# EAGLE library part AM335X (library TI)
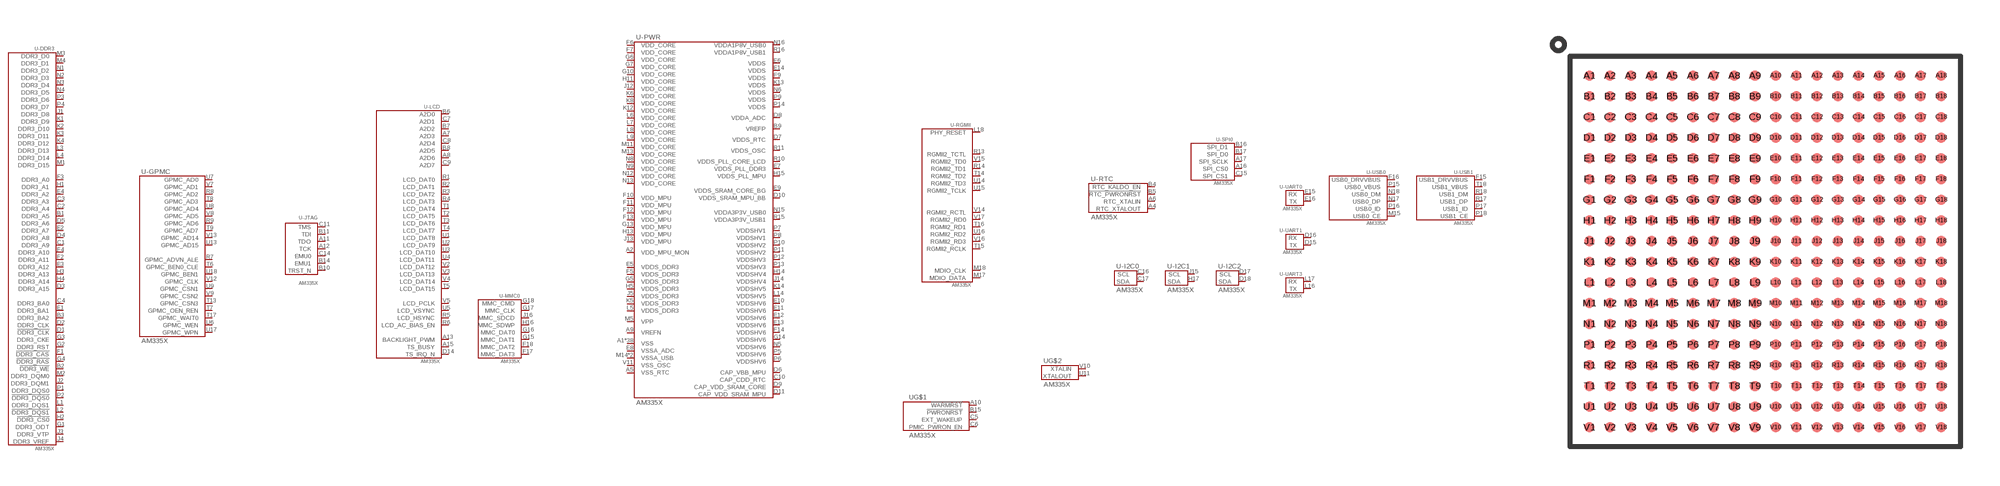
[diagram p6: symbol with the pads of AM335X-ZCZ; footprint AM335X-ZCZ]

Designator prefix U; gates -DDR3=AM335X-DDR3 -GPMC=AM335X-GPMC -JTAG=AM335X-JTAG -LCD=AM335X-LCD -PWR=AM335X-POWER -RGMII=AM335X-RGMII -RTC=AM335X-RTC -SPI0=AM335X-SPI0 -UART0=AM335X-UART0 -USB0=AM335X-USB0 -USB1=AM335X-USB1 -I2C0=AM335X-I2C -I2C1=AM335X-I2C -I2C2=AM335X-I2C -MMC0=AM335X-MMC0 -UART1=AM335X-UART0 -UART3=AM335X-UART0 G$1=AM335X-CONTROL G$2=AM335X-XTAL

## AM335X-ZCZ  [AM335X-ZCZ]
A1  -PWR:VSS
A2  -PWR:VDD_MPU_MON
A4  -RTC:RTC_XTALOUT
A5  -PWR:VSS_RTC
A6  -RTC:RTC_XTALIN
A7  -LCD:A2D3
A8  -LCD:A2D6
A9  -PWR:VREFN
A10  G$1:!WARMRST
A11  -JTAG:TDO
A12  -JTAG:TCK
A13  -LCD:BACKLIGHT_PWM
A15  -LCD:TS_BUSY
A16  -SPI0:SPI_CS0
A17  -SPI0:SPI_SCLK
A18  -PWR:VSS
B1  -DDR3:DDR3_A5
B2  -DDR3:!DDR3_WE
B3  -DDR3:DDR3_BA2
B4  -RTC:!RTC_KALDO_EN
B5  -RTC:!RTC_PWRONRST
B6  -LCD:A2D0
B7  -LCD:A2D2
B8  -LCD:A2D5
B9  -PWR:VREFP
B10  -JTAG:TRST_N
B11  -JTAG:TDI
B14  -JTAG:EMU1
B15  G$1:!PWRONRST
B16  -SPI0:SPI_D1
B17  -SPI0:SPI_D0
C1  -DDR3:DDR3_A9
C2  -DDR3:DDR3_A4
C3  -DDR3:DDR3_A3
C4  -DDR3:DDR3_BA0
C5  G$1:EXT_WAKEUP
C6  G$1:PMIC_PWRON_EN
C7  -LCD:A2D1
C8  -LCD:A2D4
C9  -LCD:A2D7
C10  -PWR:CAP_CDD_RTC
C11  -JTAG:TMS
C14  -JTAG:EMU0
C15  -SPI0:SPI_CS1
C16  -I2C0:SCL
C17  -I2C0:SDA
D1  -DDR3:!DDR3_CLK
D2  -DDR3:DDR3_CLK
D3  -DDR3:DDR3_A15
D4  -DDR3:DDR3_A8
D5  -DDR3:DDR3_A6
D6  -PWR:CAP_VBB_MPU
D7  -PWR:VDDS_RTC
D8  -PWR:VDDA_ADC
D9  -PWR:CAP_VDD_SRAM_CORE
D10  -PWR:VDDS_SRAM_MPU_BB
D11  -PWR:CAP_VDD_SRAM_MPU
D14  -LCD:TS_IRQ_N
D15  -UART1:TX
D16  -UART1:RX
D17  -I2C2:SCL
D18  -I2C2:SDA
E1  -DDR3:DDR3_BA1
E2  -DDR3:DDR3_A7
E3  -DDR3:DDR3_A12
E4  -DDR3:DDR3_A2
E5  -PWR:VDDS_DDR3
E6  -PWR:VDDS
E7  -PWR:VDDS_PLL_DDR3
E8  -PWR:VSSA_ADC
E9  -PWR:VDDS_SRAM_CORE_BG
E10  -PWR:VDDSHV6
E11  -PWR:VDDSHV6
E12  -PWR:VDDSHV6
E13  -PWR:VDDSHV6
E14  -PWR:VDDS
E15  -UART0:RX
E16  -UART0:TX
F1  -DDR3:!DDR3_CAS
F2  -DDR3:DDR3_A11
F3  -DDR3:DDR3_A0
F4  -DDR3:DDR3_A10
F5  -PWR:VDDS_DDR3
F6  -PWR:VDD_CORE
F7  -PWR:VDD_CORE
F8  -PWR:VSS
F9  -PWR:VDDS
F10  -PWR:VDD_MPU
F11  -PWR:VDD_MPU
F12  -PWR:VDD_MPU
F13  -PWR:VDD_MPU
F14  -PWR:VDDSHV6
F15  -USB1:USB1_DRVVBUS
F16  -USB0:USB0_DRVVBUS
F17  -MMC0:MMC_DAT3
F18  -MMC0:MMC_DAT2
G1  -DDR3:DDR3_ODT
G2  -DDR3:DDR3_RST
G3  -DDR3:DDR3_CKE
G4  -DDR3:!DDR3_RAS
G5  -PWR:VDDS_DDR3
G6  -PWR:VDD_CORE
G7  -PWR:VDD_CORE
G8  -PWR:VSS
G9  -PWR:VSS
G10  -PWR:VDD_CORE
G11  -PWR:VSS
G12  -PWR:VSS
G13  -PWR:VDD_MPU
G14  -PWR:VDDSHV6
G15  -MMC0:MMC_DAT1
G16  -MMC0:MMC_DAT0
G17  -MMC0:MMC_CLK
G18  -MMC0:MMC_CMD
H1  -DDR3:DDR3_A1
H2  -DDR3:!DDR3_CS0
H3  -DDR3:DDR3_A13
H4  -DDR3:DDR3_A14
H5  -PWR:VDDS_DDR3
H6  -PWR:VSS
H7  -PWR:VSS
H8  -PWR:VSS
H9  -PWR:VSS
H10  -PWR:VSS
H11  -PWR:VDD_CORE
H12  -PWR:VSS
H13  -PWR:VDD_MPU
H14  -PWR:VDDSHV4
H15  -PWR:VDDS_PLL_MPU
H16  -MMC0:MMC_SDWP
H17  -I2C1:SDA
J1  -DDR3:DDR3_D8
J2  -DDR3:DDR3_DQM1
J3  -DDR3:DDR3_VTP
J4  -DDR3:DDR3_VREF
J5  -PWR:VDDS_DDR3
J6  -PWR:VSS
J7  -PWR:VSS
J8  -PWR:VSS
J9  -PWR:VSS
J10  -PWR:VSS
J11  -PWR:VSS
J12  -PWR:VDD_CORE
J13  -PWR:VDD_MPU
J14  -PWR:VDDSHV4
J15  -I2C1:SCL
J16  -MMC0:MMC_SDCD
K1  -DDR3:DDR3_D9
K2  -DDR3:DDR3_D10
K3  -DDR3:DDR3_D11
K4  -DDR3:DDR3_D12
K5  -PWR:VDDS_DDR3
K6  -PWR:VDD_CORE
K7  -PWR:VSS
K8  -PWR:VDD_CORE
K9  -PWR:VSS
K10  -PWR:VSS
K11  -PWR:VSS
K12  -PWR:VDD_CORE
K13  -PWR:VDDS
K14  -PWR:VDDSHV5
L1  -DDR3:DDR3_DQS1
L2  -DDR3:!DDR3_DQS1
L3  -DDR3:DDR3_D13
L4  -DDR3:DDR3_D14
L5  -PWR:VDDS_DDR3
L6  -PWR:VDD_CORE
L7  -PWR:VDD_CORE
L8  -PWR:VDD_CORE
L9  -PWR:VDD_CORE
L10  -PWR:VSS
L11  -PWR:VSS
L12  -PWR:VSS
L13  -PWR:VSS
L14  -PWR:VDDSHV5
L16  -UART3:TX
L17  -UART3:RX
L18  -RGMII:PHY_RESET
M1  -DDR3:DDR3_D15
M2  -DDR3:DDR3_DQM0
M3  -DDR3:DDR3_D0
M4  -DDR3:DDR3_D1
M5  -PWR:VPP
M6  -PWR:VSS
M7  -PWR:VSS
M8  -PWR:VSS
M9  -PWR:VSS
M10  -PWR:VSS
M11  -PWR:VDD_CORE
M12  -PWR:VSS
M13  -PWR:VDD_CORE
M14  -PWR:VSSA_USB
M15  -USB0:USB0_CE
M17  -RGMII:MDIO_DATA
M18  -RGMII:MDIO_CLK
N1  -DDR3:DDR3_D2
N2  -DDR3:DDR3_D3
N3  -DDR3:DDR3_D4
N4  -DDR3:DDR3_D5
N5  -PWR:VDDSHV6
N6  -PWR:VDDS
N7  -PWR:VSS
N8  -PWR:VDD_CORE
N9  -PWR:VDD_CORE
N10  -PWR:VSS
N11  -PWR:VSS
N12  -PWR:VDD_CORE
N13  -PWR:VDD_CORE
N14  -PWR:VSSA_USB
N15  -PWR:VDDA3P3V_USB0
N16  -PWR:VDDA1P8V_USB0
N17  -USB0:USB0_DP
N18  -USB0:USB0_DM
P1  -DDR3:DDR3_DQS0
P2  -DDR3:!DDR3_DQS0
P3  -DDR3:DDR3_D6
P4  -DDR3:DDR3_D7
P5  -PWR:VDDSHV6
P6  -PWR:VDDSHV6
P7  -PWR:VDDSHV1
P8  -PWR:VDDSHV1
P9  -PWR:VDDS
P10  -PWR:VDDSHV2
P11  -PWR:VDDSHV2
P12  -PWR:VDDSHV3
P13  -PWR:VDDSHV3
P14  -PWR:VDDS
P15  -USB0:USB0_VBUS
P16  -USB0:USB0_ID
P17  -USB1:USB1_ID
P18  -USB1:USB1_CE
R1  -LCD:LCD_DAT0
R2  -LCD:LCD_DAT1
R3  -LCD:LCD_DAT2
R4  -LCD:LCD_DAT3
R5  -LCD:LCD_HSYNC
R6  -LCD:LCD_AC_BIAS_EN
R7  -GPMC:GPMC_ADVN_ALE
R8  -GPMC:GPMC_AD2
R9  -GPMC:GPMC_AD6
R10  -PWR:VDDS_PLL_CORE_LCD
R11  -PWR:VDDS_OSC
R13  -RGMII:RGMII2_TCTL
R14  -RGMII:RGMII2_TD1
R15  -PWR:VDDA3P3V_USB1
R16  -PWR:VDDA1P8V_USB1
R17  -USB1:USB1_DP
R18  -USB1:USB1_DM
T1  -LCD:LCD_DAT4
T2  -LCD:LCD_DAT5
T3  -LCD:LCD_DAT6
T4  -LCD:LCD_DAT7
T5  -LCD:LCD_DAT15
T6  -GPMC:GPMC_BEN0_CLE
T7  -GPMC:GPMC_OEN_REN
T8  -GPMC:GPMC_AD3
T9  -GPMC:GPMC_AD7
T13  -GPMC:GPMC_CSN3
T14  -RGMII:RGMII2_TD2
T15  -RGMII:RGMII2_RCLK
T16  -RGMII:RGMII2_RD1
T17  -GPMC:GPMC_WAIT0
T18  -USB1:USB1_VBUS
U1  -LCD:LCD_DAT8
U2  -LCD:LCD_DAT9
U3  -LCD:LCD_DAT10
U4  -LCD:LCD_DAT11
U5  -LCD:LCD_VSYNC
U6  -GPMC:GPMC_WEN
U7  -GPMC:GPMC_AD0
U8  -GPMC:GPMC_AD4
U9  -GPMC:GPMC_CSN1
U11  G$2:XTALOUT
U13  -GPMC:GPMC_AD15
U14  -RGMII:RGMII2_TD3
U15  -RGMII:RGMII2_TCLK
U16  -RGMII:RGMII2_RD2
U17  -GPMC:GPMC_WPN
U18  -GPMC:GPMC_BEN1
V1  -PWR:VSS
V2  -LCD:LCD_DAT12
V3  -LCD:LCD_DAT13
V4  -LCD:LCD_DAT14
V5  -LCD:LCD_PCLK
V7  -GPMC:GPMC_AD1
V8  -GPMC:GPMC_AD5
V9  -GPMC:GPMC_CSN2
V10  G$2:XTALIN
V11  -PWR:VSS_OSC
V12  -GPMC:GPMC_CLK
V13  -GPMC:GPMC_AD14
V14  -RGMII:RGMII2_RCTL
V15  -RGMII:RGMII2_TD0
V16  -RGMII:RGMII2_RD3
V17  -RGMII:RGMII2_RD0
V18  -PWR:VSS

## Footprint AM335X-ZCZ (pad centres in mm)
smd 0.4 x 0.4: A1 -6.8,6.8; A2 -6,6.8; A3 -5.2,6.8; A4 -4.4,6.8; A5 -3.6,6.8; A6 -2.8,6.8; A7 -2,6.8; A8 -1.2,6.8; A9 -0.4,6.8; A10 0.4,6.8; A11 1.2,6.8; A12 2,6.8; A13 2.8,6.8; A14 3.6,6.8; A15 4.4,6.8; A16 5.2,6.8; A17 6,6.8; A18 6.8,6.8; B1 -6.8,6; B2 -6,6; B3 -5.2,6; B4 -4.4,6; B5 -3.6,6; B6 -2.8,6; B7 -2,6; B8 -1.2,6; B9 -0.4,6; B10 0.4,6; B11 1.2,6; B12 2,6; B13 2.8,6; B14 3.6,6; B15 4.4,6; B16 5.2,6; B17 6,6; B18 6.8,6; C1 -6.8,5.2; C2 -6,5.2; C3 -5.2,5.2; C4 -4.4,5.2; C5 -3.6,5.2; C6 -2.8,5.2; C7 -2,5.2; C8 -1.2,5.2; C9 -0.4,5.2; C10 0.4,5.2; C11 1.2,5.2; C12 2,5.2; C13 2.8,5.2; C14 3.6,5.2; C15 4.4,5.2; C16 5.2,5.2; C17 6,5.2; C18 6.8,5.2; D1 -6.8,4.4; D2 -6,4.4; D3 -5.2,4.4; D4 -4.4,4.4; D5 -3.6,4.4; D6 -2.8,4.4; D7 -2,4.4; D8 -1.2,4.4; D9 -0.4,4.4; D10 0.4,4.4; D11 1.2,4.4; D12 2,4.4; D13 2.8,4.4; D14 3.6,4.4; D15 4.4,4.4; D16 5.2,4.4; D17 6,4.4; D18 6.8,4.4; E1 -6.8,3.6; E2 -6,3.6; E3 -5.2,3.6; E4 -4.4,3.6; E5 -3.6,3.6; E6 -2.8,3.6; E7 -2,3.6; E8 -1.2,3.6; E9 -0.4,3.6; E10 0.4,3.6; E11 1.2,3.6; E12 2,3.6; E13 2.8,3.6; E14 3.6,3.6; E15 4.4,3.6; E16 5.2,3.6; E17 6,3.6; E18 6.8,3.6; F1 -6.8,2.8; F2 -6,2.8; F3 -5.2,2.8; F4 -4.4,2.8; F5 -3.6,2.8; F6 -2.8,2.8; F7 -2,2.8; F8 -1.2,2.8; F9 -0.4,2.8; F10 0.4,2.8; F11 1.2,2.8; F12 2,2.8; F13 2.8,2.8; F14 3.6,2.8; F15 4.4,2.8; F16 5.2,2.8; F17 6,2.8; F18 6.8,2.8; G1 -6.8,2; G2 -6,2; G3 -5.2,2; G4 -4.4,2; G5 -3.6,2; G6 -2.8,2; G7 -2,2; G8 -1.2,2; G9 -0.4,2; G10 0.4,2; G11 1.2,2; G12 2,2; G13 2.8,2; G14 3.6,2; G15 4.4,2; G16 5.2,2; G17 6,2; G18 6.8,2; H1 -6.8,1.2; H2 -6,1.2; H3 -5.2,1.2; H4 -4.4,1.2; H5 -3.6,1.2; H6 -2.8,1.2; H7 -2,1.2; H8 -1.2,1.2; H9 -0.4,1.2; H10 0.4,1.2; H11 1.2,1.2; H12 2,1.2; H13 2.8,1.2; H14 3.6,1.2; H15 4.4,1.2; H16 5.2,1.2; H17 6,1.2; H18 6.8,1.2; J1 -6.8,0.4; J2 -6,0.4; J3 -5.2,0.4; J4 -4.4,0.4; J5 -3.6,0.4; J6 -2.8,0.4; J7 -2,0.4; J8 -1.2,0.4; J9 -0.4,0.4; J10 0.4,0.4; J11 1.2,0.4; J12 2,0.4; J13 2.8,0.4; J14 3.6,0.4; J15 4.4,0.4; J16 5.2,0.4; J17 6,0.4; J18 6.8,0.4; K1 -6.8,-0.4; K2 -6,-0.4; K3 -5.2,-0.4; K4 -4.4,-0.4; K5 -3.6,-0.4; K6 -2.8,-0.4; K7 -2,-0.4; K8 -1.2,-0.4; K9 -0.4,-0.4; K10 0.4,-0.4; K11 1.2,-0.4; K12 2,-0.4; K13 2.8,-0.4; K14 3.6,-0.4; K15 4.4,-0.4; K16 5.2,-0.4; K17 6,-0.4; K18 6.8,-0.4; L1 -6.8,-1.2; L2 -6,-1.2; L3 -5.2,-1.2; L4 -4.4,-1.2; L5 -3.6,-1.2; L6 -2.8,-1.2; L7 -2,-1.2; L8 -1.2,-1.2; L9 -0.4,-1.2; L10 0.4,-1.2; L11 1.2,-1.2; L12 2,-1.2; L13 2.8,-1.2; L14 3.6,-1.2; L15 4.4,-1.2; L16 5.2,-1.2; L17 6,-1.2; L18 6.8,-1.2; M1 -6.8,-2; M2 -6,-2; M3 -5.2,-2; M4 -4.4,-2; M5 -3.6,-2; M6 -2.8,-2; M7 -2,-2; M8 -1.2,-2; M9 -0.4,-2; M10 0.4,-2; M11 1.2,-2; M12 2,-2; M13 2.8,-2; M14 3.6,-2; M15 4.4,-2; M16 5.2,-2; M17 6,-2; M18 6.8,-2; N1 -6.8,-2.8; N2 -6,-2.8; N3 -5.2,-2.8; N4 -4.4,-2.8; N5 -3.6,-2.8; N6 -2.8,-2.8; N7 -2,-2.8; N8 -1.2,-2.8; N9 -0.4,-2.8; N10 0.4,-2.8; N11 1.2,-2.8; N12 2,-2.8; N13 2.8,-2.8; N14 3.6,-2.8; N15 4.4,-2.8; N16 5.2,-2.8; N17 6,-2.8; N18 6.8,-2.8; P1 -6.8,-3.6; P2 -6,-3.6; P3 -5.2,-3.6; P4 -4.4,-3.6; P5 -3.6,-3.6; P6 -2.8,-3.6; P7 -2,-3.6; P8 -1.2,-3.6; P9 -0.4,-3.6; P10 0.4,-3.6; P11 1.2,-3.6; P12 2,-3.6; P13 2.8,-3.6; P14 3.6,-3.6; P15 4.4,-3.6; P16 5.2,-3.6; P17 6,-3.6; P18 6.8,-3.6; R1 -6.8,-4.4; R2 -6,-4.4; R3 -5.2,-4.4; R4 -4.4,-4.4; R5 -3.6,-4.4; R6 -2.8,-4.4; R7 -2,-4.4; R8 -1.2,-4.4; R9 -0.4,-4.4; R10 0.4,-4.4; R11 1.2,-4.4; R12 2,-4.4; R13 2.8,-4.4; R14 3.6,-4.4; R15 4.4,-4.4; R16 5.2,-4.4; R17 6,-4.4; R18 6.8,-4.4; T1 -6.8,-5.2; T2 -6,-5.2; T3 -5.2,-5.2; T4 -4.4,-5.2; T5 -3.6,-5.2; T6 -2.8,-5.2; T7 -2,-5.2; T8 -1.2,-5.2; T9 -0.4,-5.2; T10 0.4,-5.2; T11 1.2,-5.2; T12 2,-5.2; T13 2.8,-5.2; T14 3.6,-5.2; T15 4.4,-5.2; T16 5.2,-5.2; T17 6,-5.2; T18 6.8,-5.2; U1 -6.8,-6; U2 -6,-6; U3 -5.2,-6; U4 -4.4,-6; U5 -3.6,-6; U6 -2.8,-6; U7 -2,-6; U8 -1.2,-6; U9 -0.4,-6; U10 0.4,-6; U11 1.2,-6; U12 2,-6; U13 2.8,-6; U14 3.6,-6; U15 4.4,-6; U16 5.2,-6; U17 6,-6; U18 6.8,-6; V1 -6.8,-6.8; V2 -6,-6.8; V3 -5.2,-6.8; V4 -4.4,-6.8; V5 -3.6,-6.8; V6 -2.8,-6.8; V7 -2,-6.8; V8 -1.2,-6.8; V9 -0.4,-6.8; V10 0.4,-6.8; V11 1.2,-6.8; V12 2,-6.8; V13 2.8,-6.8; V14 3.6,-6.8; V15 4.4,-6.8; V16 5.2,-6.8; V17 6,-6.8; V18 6.8,-6.8